# Altium schematic symbol library PCB - NETWORK - MICROCHIP LAN8740A.SchLib: 1 symbol
Pins are listed as number, name and electrical type; pins without a type are passive.

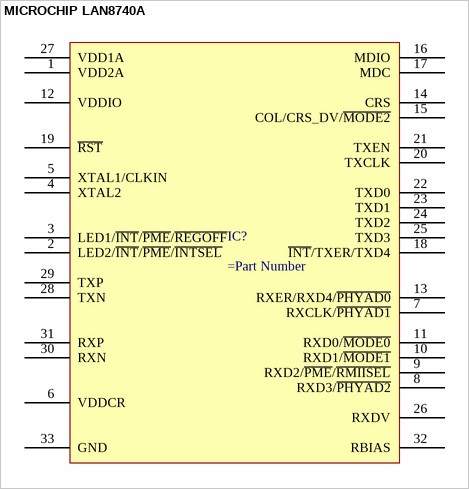
[diagram p0: symbol MICROCHIP LAN8740A]

## MICROCHIP LAN8740A
designator IC?
pins: 1 VDD2A, 2 LED2/~{INT}/~{PME}/~{INTSEL}, 3 LED1/~{INT}/~{PME}/~{REGOFF}, 4 XTAL2, 5 XTAL1/CLKIN, 6 VDDCR, 7 RXCLK/~{PHYAD1}, 8 RXD3/~{PHYAD2}, 9 RXD2/~{PME}/~{RMIISEL}, 10 RXD1/~{MODE1}, 11 RXD0/~{MODE0}, 12 VDDIO, 13 RXER/RXD4/~{PHYAD0}, 14 CRS, 15 COL/CRS_DV/~{MODE2}, 16 MDIO, 17 MDC, 18 ~{INT}/TXER/TXD4, 19 ~{RST}, 20 TXCLK, 21 TXEN, 22 TXD0, 23 TXD1, 24 TXD2, 25 TXD3, 26 RXDV, 27 VDD1A, 28 TXN, 29 TXP, 30 RXN, 31 RXP, 32 RBIAS, 33 GND